# EAGLE library part 428427520916 (library Wurth_Elektronik_Electromechanic_Switch_rev15d)
WS-RCT, 10*10mm Rotary Switch, right angle type, THT, 16 position, 2,54mm, 6 pins, round Cross type, dark grey, real code,
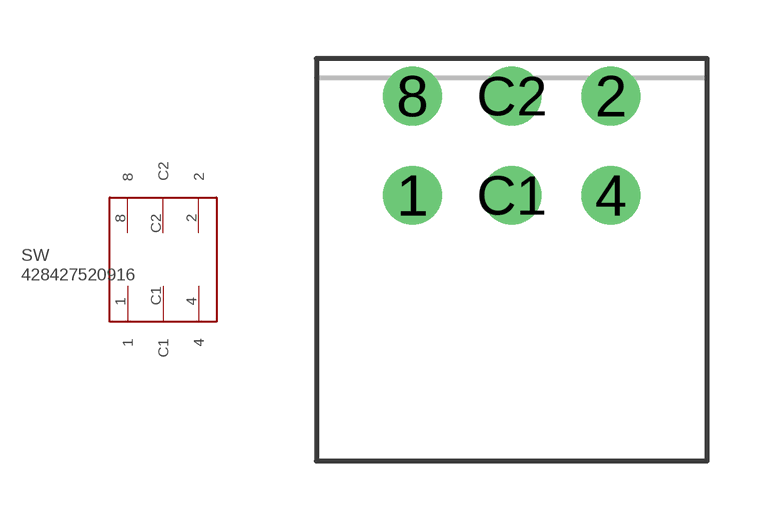
[diagram p150: symbol with the pads of 428427520916; footprint 428427520916]

Designator prefix SW

## 428427520916  [428427520916]
1  1
2  2
4  4
8  8
C1  C1
C2  C2

## Footprint 428427520916 (pad centres in mm)
WS-RCT, 10*10mm Rotary Switch, right angle type, THT, 16 position, 2,54mm, 6 pins, round Cross type, dark grey, real code,
drill 1: 1 -2.54,-1.27; 2 2.54,1.27; 4 2.54,-1.27; 8 -2.54,1.27; C1 0,-1.27; C2 0,1.27